# Altium integrated library ALTIUM-WE-LQS-rev18a.IntLib: 212 symbols (part 2 of 3)
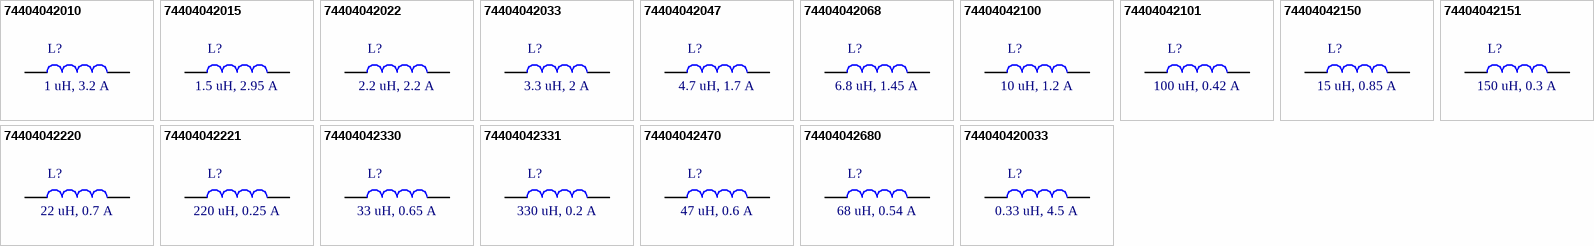
[diagram p13: symbols 74404042010 to 744040420033]

## 74404042330
designator L?, comment 33 uH, 0.65 A
SMT Semi-Shielded Power Inductor WE-LQS, size 4018, 33 uH, 0.65 A; Part Number: 74404042330; Rated Current: 0.65 A; Inductance: 33 uH; DC Resistance max.: 552 mOhm; Self Resonant Frequency: 14 MHz; Saturation Current: 0.9 A; ComponentLink1Description: Manufacturer; ComponentLink1URL: http://www.we-online.de; ComponentLink2Description: Datasheet; ComponentLink2URL: https://katalog.we-online.de/pbs/datasheet/74404042330.pdf; Published Date: November 2018; Publisher: Wurth Elektronik; Size: 4018; Operating Temperature: -40 to +125 degC; Mounting Technology: SMT; Packaging: Tape and Reel
footprint WE-LQS_4018
pins: 1, 2

## 74404042331
designator L?, comment 330 uH, 0.2 A
SMT Semi-Shielded Power Inductor WE-LQS, size 4018, 330 uH, 0.2 A; Part Number: 74404042331; Rated Current: 0.2 A; Inductance: 330 uH; DC Resistance max.: 6360 mOhm; Self Resonant Frequency: 4.2 MHz; Saturation Current: 0.3 A; ComponentLink1Description: Manufacturer; ComponentLink1URL: http://www.we-online.de; ComponentLink2Description: Datasheet; ComponentLink2URL: https://katalog.we-online.de/pbs/datasheet/74404042331.pdf; Published Date: November 2018; Publisher: Wurth Elektronik; Size: 4018; Operating Temperature: -40 to +125 degC; Mounting Technology: SMT; Packaging: Tape and Reel
footprint WE-LQS_4018
pins: 1, 2

## 74404042470
designator L?, comment 47 uH, 0.6 A
SMT Semi-Shielded Power Inductor WE-LQS, size 4018, 47 uH, 0.6 A; Part Number: 74404042470; Rated Current: 0.6 A; Inductance: 47 uH; DC Resistance max.: 744 mOhm; Self Resonant Frequency: 11 MHz; Saturation Current: 0.7 A; ComponentLink1Description: Manufacturer; ComponentLink1URL: http://www.we-online.de; ComponentLink2Description: Datasheet; ComponentLink2URL: https://katalog.we-online.de/pbs/datasheet/74404042470.pdf; Published Date: November 2018; Publisher: Wurth Elektronik; Size: 4018; Operating Temperature: -40 to +125 degC; Mounting Technology: SMT; Packaging: Tape and Reel
footprint WE-LQS_4018
pins: 1, 2

## 74404042680
designator L?, comment 68 uH, 0.54 A
SMT Semi-Shielded Power Inductor WE-LQS, size 4018, 68 uH, 0.54 A; Part Number: 74404042680; Rated Current: 0.54 A; Inductance: 68 uH; DC Resistance max.: 1008 mOhm; Self Resonant Frequency: 9 MHz; Saturation Current: 0.63 A; ComponentLink1Description: Manufacturer; ComponentLink1URL: http://www.we-online.de; ComponentLink2Description: Datasheet; ComponentLink2URL: https://katalog.we-online.de/pbs/datasheet/74404042680.pdf; Published Date: November 2018; Publisher: Wurth Elektronik; Size: 4018; Operating Temperature: -40 to +125 degC; Mounting Technology: SMT; Packaging: Tape and Reel
footprint WE-LQS_4018
pins: 1, 2

## 744040420033
designator L?, comment 0.33 uH, 4.5 A
SMT Semi-Shielded Power Inductor WE-LQS, size 4018, 0.33 uH, 4.5 A; Part Number: 744040420033; Rated Current: 4.5 A; Inductance: 0.33 uH; DC Resistance max.: 15.6 mOhm; Self Resonant Frequency: 326 MHz; Saturation Current: 7.6 A; ComponentLink1Description: Manufacturer; ComponentLink1URL: http://www.we-online.de; ComponentLink2Description: Datasheet; ComponentLink2URL: https://katalog.we-online.de/pbs/datasheet/744040420033.pdf; Published Date: November 2018; Publisher: Wurth Elektronik; Size: 4018; Operating Temperature: -40 to +125 degC; Mounting Technology: SMT; Packaging: Tape and Reel
footprint WE-LQS_4018
pins: 1, 2


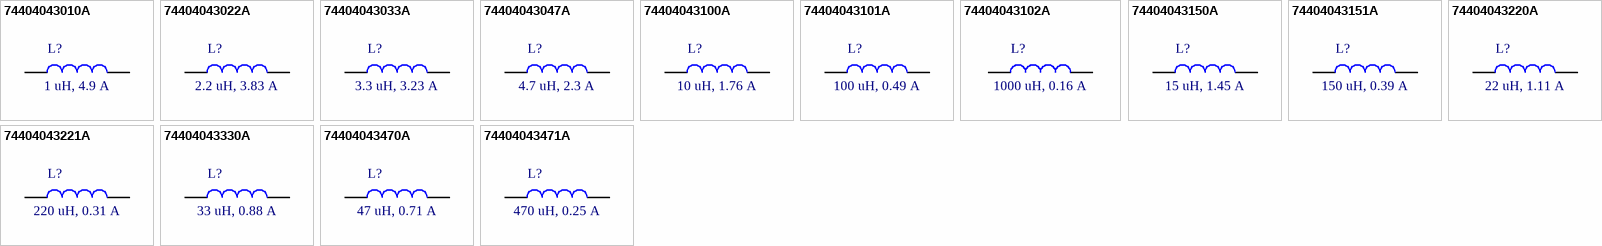
[diagram p6: symbols 74404043010A to 74404043471A]

## 74404043010A
designator L?, comment 1 uH, 4.9 A
SMT Semi-Shielded Power Inductor WE-LQS, size 4025, 1 uH, 4.9 A; Part Number: 74404043010A; Rated Current: 4.9 A; Inductance: 1 uH; DC Resistance max.: 16.8 mOhm; Self Resonant Frequency: 167 MHz; Saturation Current: 3.22 A; ComponentLink1Description: Manufacturer; ComponentLink1URL: http://www.we-online.de; ComponentLink2Description: Datasheet; ComponentLink2URL: https://katalog.we-online.de/pbs/datasheet/74404043010A.pdf; Published Date: November 2018; Publisher: Wurth Elektronik; Size: 4025; Operating Temperature: -40 to +125 degC; Mounting Technology: SMT; Packaging: Tape and Reel
footprint WE-LQS_4025
pins: 1, 2

## 74404043022A
designator L?, comment 2.2 uH, 3.83 A
SMT Semi-Shielded Power Inductor WE-LQS, size 4025, 2.2 uH, 3.83 A; Part Number: 74404043022A; Rated Current: 3.83 A; Inductance: 2.2 uH; DC Resistance max.: 27.6 mOhm; Self Resonant Frequency: 104 MHz; Saturation Current: 2.28 A; ComponentLink1Description: Manufacturer; ComponentLink1URL: http://www.we-online.de; ComponentLink2Description: Datasheet; ComponentLink2URL: https://katalog.we-online.de/pbs/datasheet/74404043022A.pdf; Published Date: November 2018; Publisher: Wurth Elektronik; Size: 4025; Operating Temperature: -40 to +125 degC; Mounting Technology: SMT; Packaging: Tape and Reel
footprint WE-LQS_4025
pins: 1, 2

## 74404043033A
designator L?, comment 3.3 uH, 3.23 A
SMT Semi-Shielded Power Inductor WE-LQS, size 4025, 3.3 uH, 3.23 A; Part Number: 74404043033A; Rated Current: 3.23 A; Inductance: 3.3 uH; DC Resistance max.: 39.6 mOhm; Self Resonant Frequency: 75 MHz; Saturation Current: 1.75 A; ComponentLink1Description: Manufacturer; ComponentLink1URL: http://www.we-online.de; ComponentLink2Description: Datasheet; ComponentLink2URL: https://katalog.we-online.de/pbs/datasheet/74404043033A.pdf; Published Date: November 2018; Publisher: Wurth Elektronik; Size: 4025; Operating Temperature: -40 to +125 degC; Mounting Technology: SMT; Packaging: Tape and Reel
footprint WE-LQS_4025
pins: 1, 2

## 74404043047A
designator L?, comment 4.7 uH, 2.3 A
SMT Semi-Shielded Power Inductor WE-LQS, size 4025, 4.7 uH, 2.3 A; Part Number: 74404043047A; Rated Current: 2.3 A; Inductance: 4.7 uH; DC Resistance max.: 55.2 mOhm; Self Resonant Frequency: 61 MHz; Saturation Current: 1.43 A; ComponentLink1Description: Manufacturer; ComponentLink1URL: http://www.we-online.de; ComponentLink2Description: Datasheet; ComponentLink2URL: https://katalog.we-online.de/pbs/datasheet/74404043047A.pdf; Published Date: November 2018; Publisher: Wurth Elektronik; Size: 4025; Operating Temperature: -40 to +125 degC; Mounting Technology: SMT; Packaging: Tape and Reel
footprint WE-LQS_4025
pins: 1, 2

## 74404043100A
designator L?, comment 10 uH, 1.76 A
SMT Semi-Shielded Power Inductor WE-LQS, size 4025, 10 uH, 1.76 A; Part Number: 74404043100A; Rated Current: 1.76 A; Inductance: 10 uH; DC Resistance max.: 106.8 mOhm; Self Resonant Frequency: 42 MHz; Saturation Current: 1.04 A; ComponentLink1Description: Manufacturer; ComponentLink1URL: http://www.we-online.de; ComponentLink2Description: Datasheet; ComponentLink2URL: https://katalog.we-online.de/pbs/datasheet/74404043100A.pdf; Published Date: November 2018; Publisher: Wurth Elektronik; Size: 4025; Operating Temperature: -40 to +125 degC; Mounting Technology: SMT; Packaging: Tape and Reel
footprint WE-LQS_4025
pins: 1, 2

## 74404043101A
designator L?, comment 100 uH, 0.49 A
SMT Semi-Shielded Power Inductor WE-LQS, size 4025, 100 uH, 0.49 A; Part Number: 74404043101A; Rated Current: 0.49 A; Inductance: 100 uH; DC Resistance max.: 1251.6 mOhm; Self Resonant Frequency: 11 MHz; Saturation Current: 0.29 A; ComponentLink1Description: Manufacturer; ComponentLink1URL: http://www.we-online.de; ComponentLink2Description: Datasheet; ComponentLink2URL: https://katalog.we-online.de/pbs/datasheet/74404043101A.pdf; Published Date: November 2018; Publisher: Wurth Elektronik; Size: 4025; Operating Temperature: -40 to +125 degC; Mounting Technology: SMT; Packaging: Tape and Reel
footprint WE-LQS_4025
pins: 1, 2

## 74404043102A
designator L?, comment 1000 uH, 0.16 A
SMT Semi-Shielded Power Inductor WE-LQS, size 4025, 1000 uH, 0.16 A; Part Number: 74404043102A; Rated Current: 0.16 A; Inductance: 1000 uH; DC Resistance max.: 12410.4 mOhm; Self Resonant Frequency: 3 MHz; Saturation Current: 0.09 A; ComponentLink1Description: Manufacturer; ComponentLink1URL: http://www.we-online.de; ComponentLink2Description: Datasheet; ComponentLink2URL: https://katalog.we-online.de/pbs/datasheet/74404043102A.pdf; Published Date: November 2018; Publisher: Wurth Elektronik; Size: 4025; Operating Temperature: -40 to +125 degC; Mounting Technology: SMT; Packaging: Tape and Reel
footprint WE-LQS_4025
pins: 1, 2

## 74404043150A
designator L?, comment 15 uH, 1.45 A
SMT Semi-Shielded Power Inductor WE-LQS, size 4025, 15 uH, 1.45 A; Part Number: 74404043150A; Rated Current: 1.45 A; Inductance: 15 uH; DC Resistance max.: 158.4 mOhm; Self Resonant Frequency: 33 MHz; Saturation Current: 0.84 A; ComponentLink1Description: Manufacturer; ComponentLink1URL: http://www.we-online.de; ComponentLink2Description: Datasheet; ComponentLink2URL: https://katalog.we-online.de/pbs/datasheet/74404043150A.pdf; Published Date: November 2018; Publisher: Wurth Elektronik; Size: 4025; Operating Temperature: -40 to +125 degC; Mounting Technology: SMT; Packaging: Tape and Reel
footprint WE-LQS_4025
pins: 1, 2

## 74404043151A
designator L?, comment 150 uH, 0.39 A
SMT Semi-Shielded Power Inductor WE-LQS, size 4025, 150 uH, 0.39 A; Part Number: 74404043151A; Rated Current: 0.39 A; Inductance: 150 uH; DC Resistance max.: 1960.8 mOhm; Self Resonant Frequency: 9 MHz; Saturation Current: 0.27 A; ComponentLink1Description: Manufacturer; ComponentLink1URL: http://www.we-online.de; ComponentLink2Description: Datasheet; ComponentLink2URL: https://katalog.we-online.de/pbs/datasheet/74404043151A.pdf; Published Date: November 2018; Publisher: Wurth Elektronik; Size: 4025; Operating Temperature: -40 to +125 degC; Mounting Technology: SMT; Packaging: Tape and Reel
footprint WE-LQS_4025
pins: 1, 2

## 74404043220A
designator L?, comment 22 uH, 1.11 A
SMT Semi-Shielded Power Inductor WE-LQS, size 4025, 22 uH, 1.11 A; Part Number: 74404043220A; Rated Current: 1.11 A; Inductance: 22 uH; DC Resistance max.: 240 mOhm; Self Resonant Frequency: 26 MHz; Saturation Current: 0.7 A; ComponentLink1Description: Manufacturer; ComponentLink1URL: http://www.we-online.de; ComponentLink2Description: Datasheet; ComponentLink2URL: https://katalog.we-online.de/pbs/datasheet/74404043220A.pdf; Published Date: November 2018; Publisher: Wurth Elektronik; Size: 4025; Operating Temperature: -40 to +125 degC; Mounting Technology: SMT; Packaging: Tape and Reel
footprint WE-LQS_4025
pins: 1, 2

## 74404043221A
designator L?, comment 220 uH, 0.31 A
SMT Semi-Shielded Power Inductor WE-LQS, size 4025, 220 uH, 0.31 A; Part Number: 74404043221A; Rated Current: 0.31 A; Inductance: 220 uH; DC Resistance max.: 2916 mOhm; Self Resonant Frequency: 7 MHz; Saturation Current: 0.21 A; ComponentLink1Description: Manufacturer; ComponentLink1URL: http://www.we-online.de; ComponentLink2Description: Datasheet; ComponentLink2URL: https://katalog.we-online.de/pbs/datasheet/74404043221A.pdf; Published Date: November 2018; Publisher: Wurth Elektronik; Size: 4025; Operating Temperature: -40 to +125 degC; Mounting Technology: SMT; Packaging: Tape and Reel
footprint WE-LQS_4025
pins: 1, 2

## 74404043330A
designator L?, comment 33 uH, 0.88 A
SMT Semi-Shielded Power Inductor WE-LQS, size 4025, 33 uH, 0.88 A; Part Number: 74404043330A; Rated Current: 0.88 A; Inductance: 33 uH; DC Resistance max.: 379.2 mOhm; Self Resonant Frequency: 21 MHz; Saturation Current: 0.53 A; ComponentLink1Description: Manufacturer; ComponentLink1URL: http://www.we-online.de; ComponentLink2Description: Datasheet; ComponentLink2URL: https://katalog.we-online.de/pbs/datasheet/74404043330A.pdf; Published Date: November 2018; Publisher: Wurth Elektronik; Size: 4025; Operating Temperature: -40 to +125 degC; Mounting Technology: SMT; Packaging: Tape and Reel
footprint WE-LQS_4025
pins: 1, 2

## 74404043470A
designator L?, comment 47 uH, 0.71 A
SMT Semi-Shielded Power Inductor WE-LQS, size 4025, 47 uH, 0.71 A; Part Number: 74404043470A; Rated Current: 0.71 A; Inductance: 47 uH; DC Resistance max.: 590.4 mOhm; Self Resonant Frequency: 15 MHz; Saturation Current: 0.45 A; ComponentLink1Description: Manufacturer; ComponentLink1URL: http://www.we-online.de; ComponentLink2Description: Datasheet; ComponentLink2URL: https://katalog.we-online.de/pbs/datasheet/74404043470A.pdf; Published Date: November 2018; Publisher: Wurth Elektronik; Size: 4025; Operating Temperature: -40 to +125 degC; Mounting Technology: SMT; Packaging: Tape and Reel
footprint WE-LQS_4025
pins: 1, 2

## 74404043471A
designator L?, comment 470 uH, 0.25 A
SMT Semi-Shielded Power Inductor WE-LQS, size 4025, 470 uH, 0.25 A; Part Number: 74404043471A; Rated Current: 0.25 A; Inductance: 470 uH; DC Resistance max.: 4980 mOhm; Self Resonant Frequency: 4.7 MHz; Saturation Current: 0.14 A; ComponentLink1Description: Manufacturer; ComponentLink1URL: http://www.we-online.de; ComponentLink2Description: Datasheet; ComponentLink2URL: https://katalog.we-online.de/pbs/datasheet/74404043471A.pdf; Published Date: November 2018; Publisher: Wurth Elektronik; Size: 4025; Operating Temperature: -40 to +125 degC; Mounting Technology: SMT; Packaging: Tape and Reel
footprint WE-LQS_4025
pins: 1, 2


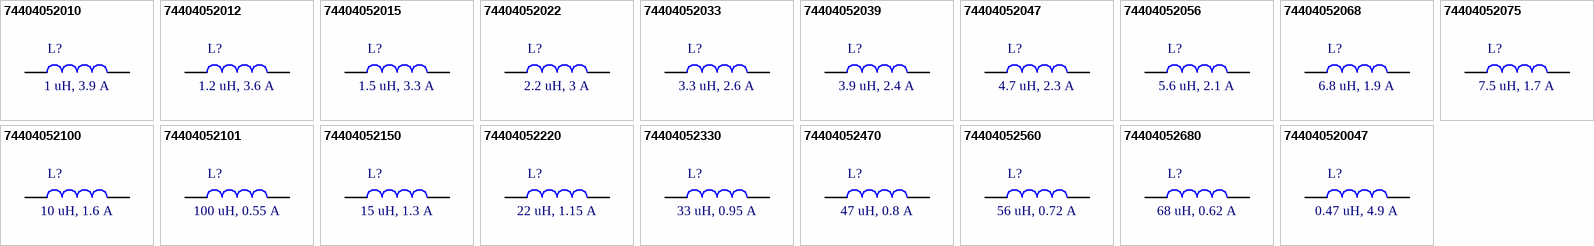
[diagram p7: symbols 74404052010 to 744040520047]

## 74404052010
designator L?, comment 1 uH, 3.9 A
SMT Semi-Shielded Power Inductor WE-LQS, size 5020, 1 uH, 3.9 A; Part Number: 74404052010; Rated Current: 3.9 A; Inductance: 1 uH; DC Resistance max.: 23.76 mOhm; Self Resonant Frequency: 145 MHz; Saturation Current: 5.5 A; ComponentLink1Description: Manufacturer; ComponentLink1URL: http://www.we-online.de; ComponentLink2Description: Datasheet; ComponentLink2URL: https://katalog.we-online.de/pbs/datasheet/74404052010.pdf; Published Date: November 2018; Publisher: Wurth Elektronik; Size: 5020; Operating Temperature: -40 to +125 degC; Mounting Technology: SMT; Packaging: Tape and Reel
footprint WE-LQS_5020
pins: 1, 2

## 74404052012
designator L?, comment 1.2 uH, 3.6 A
SMT Semi-Shielded Power Inductor WE-LQS, size 5020, 1.2 uH, 3.6 A; Part Number: 74404052012; Rated Current: 3.6 A; Inductance: 1.2 uH; DC Resistance max.: 28.08 mOhm; Self Resonant Frequency: 150 MHz; Saturation Current: 5.2 A; ComponentLink1Description: Manufacturer; ComponentLink1URL: http://www.we-online.de; ComponentLink2Description: Datasheet; ComponentLink2URL: https://katalog.we-online.de/pbs/datasheet/74404052012.pdf; Published Date: November 2018; Publisher: Wurth Elektronik; Size: 5020; Operating Temperature: -40 to +125 degC; Mounting Technology: SMT; Packaging: Tape and Reel
footprint WE-LQS_5020
pins: 1, 2

## 74404052015
designator L?, comment 1.5 uH, 3.3 A
SMT Semi-Shielded Power Inductor WE-LQS, size 5020, 1.5 uH, 3.3 A; Part Number: 74404052015; Rated Current: 3.3 A; Inductance: 1.5 uH; DC Resistance max.: 30.84 mOhm; Self Resonant Frequency: 92 MHz; Saturation Current: 4.9 A; ComponentLink1Description: Manufacturer; ComponentLink1URL: http://www.we-online.de; ComponentLink2Description: Datasheet; ComponentLink2URL: https://katalog.we-online.de/pbs/datasheet/74404052015.pdf; Published Date: November 2018; Publisher: Wurth Elektronik; Size: 5020; Operating Temperature: -40 to +125 degC; Mounting Technology: SMT; Packaging: Tape and Reel
footprint WE-LQS_5020
pins: 1, 2

## 74404052022
designator L?, comment 2.2 uH, 3 A
SMT Semi-Shielded Power Inductor WE-LQS, size 5020, 2.2 uH, 3 A; Part Number: 74404052022; Rated Current: 3 A; Inductance: 2.2 uH; DC Resistance max.: 37.92 mOhm; Self Resonant Frequency: 88 MHz; Saturation Current: 3.6 A; ComponentLink1Description: Manufacturer; ComponentLink1URL: http://www.we-online.de; ComponentLink2Description: Datasheet; ComponentLink2URL: https://katalog.we-online.de/pbs/datasheet/74404052022.pdf; Published Date: November 2018; Publisher: Wurth Elektronik; Size: 5020; Operating Temperature: -40 to +125 degC; Mounting Technology: SMT; Packaging: Tape and Reel
footprint WE-LQS_5020
pins: 1, 2

## 74404052033
designator L?, comment 3.3 uH, 2.6 A
SMT Semi-Shielded Power Inductor WE-LQS, size 5020, 3.3 uH, 2.6 A; Part Number: 74404052033; Rated Current: 2.6 A; Inductance: 3.3 uH; DC Resistance max.: 50.64 mOhm; Self Resonant Frequency: 70 MHz; Saturation Current: 3 A; ComponentLink1Description: Manufacturer; ComponentLink1URL: http://www.we-online.de; ComponentLink2Description: Datasheet; ComponentLink2URL: https://katalog.we-online.de/pbs/datasheet/74404052033.pdf; Published Date: November 2018; Publisher: Wurth Elektronik; Size: 5020; Operating Temperature: -40 to +125 degC; Mounting Technology: SMT; Packaging: Tape and Reel
footprint WE-LQS_5020
pins: 1, 2

## 74404052039
designator L?, comment 3.9 uH, 2.4 A
SMT Semi-Shielded Power Inductor WE-LQS, size 5020, 3.9 uH, 2.4 A; Part Number: 74404052039; Rated Current: 2.4 A; Inductance: 3.9 uH; DC Resistance max.: 60.6 mOhm; Self Resonant Frequency: 62 MHz; Saturation Current: 2.8 A; ComponentLink1Description: Manufacturer; ComponentLink1URL: http://www.we-online.de; ComponentLink2Description: Datasheet; ComponentLink2URL: https://katalog.we-online.de/pbs/datasheet/74404052039.pdf; Published Date: November 2018; Publisher: Wurth Elektronik; Size: 5020; Operating Temperature: -40 to +125 degC; Mounting Technology: SMT; Packaging: Tape and Reel
footprint WE-LQS_5020
pins: 1, 2

## 74404052047
designator L?, comment 4.7 uH, 2.3 A
SMT Semi-Shielded Power Inductor WE-LQS, size 5020, 4.7 uH, 2.3 A; Part Number: 74404052047; Rated Current: 2.3 A; Inductance: 4.7 uH; DC Resistance max.: 67.08 mOhm; Self Resonant Frequency: 57 MHz; Saturation Current: 2.7 A; ComponentLink1Description: Manufacturer; ComponentLink1URL: http://www.we-online.de; ComponentLink2Description: Datasheet; ComponentLink2URL: https://katalog.we-online.de/pbs/datasheet/74404052047.pdf; Published Date: November 2018; Publisher: Wurth Elektronik; Size: 5020; Operating Temperature: -40 to +125 degC; Mounting Technology: SMT; Packaging: Tape and Reel
footprint WE-LQS_5020
pins: 1, 2

## 74404052056
designator L?, comment 5.6 uH, 2.1 A
SMT Semi-Shielded Power Inductor WE-LQS, size 5020, 5.6 uH, 2.1 A; Part Number: 74404052056; Rated Current: 2.1 A; Inductance: 5.6 uH; DC Resistance max.: 81 mOhm; Self Resonant Frequency: 50 MHz; Saturation Current: 2.55 A; ComponentLink1Description: Manufacturer; ComponentLink1URL: http://www.we-online.de; ComponentLink2Description: Datasheet; ComponentLink2URL: https://katalog.we-online.de/pbs/datasheet/74404052056.pdf; Published Date: November 2018; Publisher: Wurth Elektronik; Size: 5020; Operating Temperature: -40 to +125 degC; Mounting Technology: SMT; Packaging: Tape and Reel
footprint WE-LQS_5020
pins: 1, 2

## 74404052068
designator L?, comment 6.8 uH, 1.9 A
SMT Semi-Shielded Power Inductor WE-LQS, size 5020, 6.8 uH, 1.9 A; Part Number: 74404052068; Rated Current: 1.9 A; Inductance: 6.8 uH; DC Resistance max.: 99.24 mOhm; Self Resonant Frequency: 46 MHz; Saturation Current: 2.4 A; ComponentLink1Description: Manufacturer; ComponentLink1URL: http://www.we-online.de; ComponentLink2Description: Datasheet; ComponentLink2URL: https://katalog.we-online.de/pbs/datasheet/74404052068.pdf; Published Date: November 2018; Publisher: Wurth Elektronik; Size: 5020; Operating Temperature: -40 to +125 degC; Mounting Technology: SMT; Packaging: Tape and Reel
footprint WE-LQS_5020
pins: 1, 2

## 74404052075
designator L?, comment 7.5 uH, 1.7 A
SMT Semi-Shielded Power Inductor WE-LQS, size 5020, 7.5 uH, 1.7 A; Part Number: 74404052075; Rated Current: 1.7 A; Inductance: 7.5 uH; DC Resistance max.: 116.16 mOhm; Self Resonant Frequency: 40 MHz; Saturation Current: 2.1 A; ComponentLink1Description: Manufacturer; ComponentLink1URL: http://www.we-online.de; ComponentLink2Description: Datasheet; ComponentLink2URL: https://katalog.we-online.de/pbs/datasheet/74404052075.pdf; Published Date: November 2018; Publisher: Wurth Elektronik; Size: 5020; Operating Temperature: -40 to +125 degC; Mounting Technology: SMT; Packaging: Tape and Reel
footprint WE-LQS_5020
pins: 1, 2

## 74404052100
designator L?, comment 10 uH, 1.6 A
SMT Semi-Shielded Power Inductor WE-LQS, size 5020, 10 uH, 1.6 A; Part Number: 74404052100; Rated Current: 1.6 A; Inductance: 10 uH; DC Resistance max.: 130.8 mOhm; Self Resonant Frequency: 37 MHz; Saturation Current: 1.95 A; ComponentLink1Description: Manufacturer; ComponentLink1URL: http://www.we-online.de; ComponentLink2Description: Datasheet; ComponentLink2URL: https://katalog.we-online.de/pbs/datasheet/74404052100.pdf; Published Date: November 2018; Publisher: Wurth Elektronik; Size: 5020; Operating Temperature: -40 to +125 degC; Mounting Technology: SMT; Packaging: Tape and Reel
footprint WE-LQS_5020
pins: 1, 2

## 74404052101
designator L?, comment 100 uH, 0.55 A
SMT Semi-Shielded Power Inductor WE-LQS, size 5020, 100 uH, 0.55 A; Part Number: 74404052101; Rated Current: 0.55 A; Inductance: 100 uH; DC Resistance max.: 1308 mOhm; Self Resonant Frequency: 8.7 MHz; Saturation Current: 0.6 A; ComponentLink1Description: Manufacturer; ComponentLink1URL: http://www.we-online.de; ComponentLink2Description: Datasheet; ComponentLink2URL: https://katalog.we-online.de/pbs/datasheet/74404052101.pdf; Published Date: November 2018; Publisher: Wurth Elektronik; Size: 5020; Operating Temperature: -40 to +125 degC; Mounting Technology: SMT; Packaging: Tape and Reel
footprint WE-LQS_5020
pins: 1, 2

## 74404052150
designator L?, comment 15 uH, 1.3 A
SMT Semi-Shielded Power Inductor WE-LQS, size 5020, 15 uH, 1.3 A; Part Number: 74404052150; Rated Current: 1.3 A; Inductance: 15 uH; DC Resistance max.: 194.4 mOhm; Self Resonant Frequency: 31 MHz; Saturation Current: 1.5 A; ComponentLink1Description: Manufacturer; ComponentLink1URL: http://www.we-online.de; ComponentLink2Description: Datasheet; ComponentLink2URL: https://katalog.we-online.de/pbs/datasheet/74404052150.pdf; Published Date: November 2018; Publisher: Wurth Elektronik; Size: 5020; Operating Temperature: -40 to +125 degC; Mounting Technology: SMT; Packaging: Tape and Reel
footprint WE-LQS_5020
pins: 1, 2

## 74404052220
designator L?, comment 22 uH, 1.15 A
SMT Semi-Shielded Power Inductor WE-LQS, size 5020, 22 uH, 1.15 A; Part Number: 74404052220; Rated Current: 1.15 A; Inductance: 22 uH; DC Resistance max.: 270 mOhm; Self Resonant Frequency: 22 MHz; Saturation Current: 1.35 A; ComponentLink1Description: Manufacturer; ComponentLink1URL: http://www.we-online.de; ComponentLink2Description: Datasheet; ComponentLink2URL: https://katalog.we-online.de/pbs/datasheet/74404052220.pdf; Published Date: November 2018; Publisher: Wurth Elektronik; Size: 5020; Operating Temperature: -40 to +125 degC; Mounting Technology: SMT; Packaging: Tape and Reel
footprint WE-LQS_5020
pins: 1, 2

## 74404052330
designator L?, comment 33 uH, 0.95 A
SMT Semi-Shielded Power Inductor WE-LQS, size 5020, 33 uH, 0.95 A; Part Number: 74404052330; Rated Current: 0.95 A; Inductance: 33 uH; DC Resistance max.: 464.4 mOhm; Self Resonant Frequency: 15 MHz; Saturation Current: 1.1 A; ComponentLink1Description: Manufacturer; ComponentLink1URL: http://www.we-online.de; ComponentLink2Description: Datasheet; ComponentLink2URL: https://katalog.we-online.de/pbs/datasheet/74404052330.pdf; Published Date: November 2018; Publisher: Wurth Elektronik; Size: 5020; Operating Temperature: -40 to +125 degC; Mounting Technology: SMT; Packaging: Tape and Reel
footprint WE-LQS_5020
pins: 1, 2

## 74404052470
designator L?, comment 47 uH, 0.8 A
SMT Semi-Shielded Power Inductor WE-LQS, size 5020, 47 uH, 0.8 A; Part Number: 74404052470; Rated Current: 0.8 A; Inductance: 47 uH; DC Resistance max.: 625.2 mOhm; Self Resonant Frequency: 11 MHz; Saturation Current: 0.95 A; ComponentLink1Description: Manufacturer; ComponentLink1URL: http://www.we-online.de; ComponentLink2Description: Datasheet; ComponentLink2URL: https://katalog.we-online.de/pbs/datasheet/74404052470.pdf; Published Date: November 2018; Publisher: Wurth Elektronik; Size: 5020; Operating Temperature: -40 to +125 degC; Mounting Technology: SMT; Packaging: Tape and Reel
footprint WE-LQS_5020
pins: 1, 2

## 74404052560
designator L?, comment 56 uH, 0.72 A
SMT Semi-Shielded Power Inductor WE-LQS, size 5020, 56 uH, 0.72 A; Part Number: 74404052560; Rated Current: 0.72 A; Inductance: 56 uH; DC Resistance max.: 752.4 mOhm; Self Resonant Frequency: 10 MHz; Saturation Current: 0.85 A; ComponentLink1Description: Manufacturer; ComponentLink1URL: http://www.we-online.de; ComponentLink2Description: Datasheet; ComponentLink2URL: https://katalog.we-online.de/pbs/datasheet/74404052560.pdf; Published Date: November 2018; Publisher: Wurth Elektronik; Size: 5020; Operating Temperature: -40 to +125 degC; Mounting Technology: SMT; Packaging: Tape and Reel
footprint WE-LQS_5020
pins: 1, 2

## 74404052680
designator L?, comment 68 uH, 0.62 A
SMT Semi-Shielded Power Inductor WE-LQS, size 5020, 68 uH, 0.62 A; Part Number: 74404052680; Rated Current: 0.62 A; Inductance: 68 uH; DC Resistance max.: 922.8 mOhm; Self Resonant Frequency: 9.2 MHz; Saturation Current: 0.8 A; ComponentLink1Description: Manufacturer; ComponentLink1URL: http://www.we-online.de; ComponentLink2Description: Datasheet; ComponentLink2URL: https://katalog.we-online.de/pbs/datasheet/74404052680.pdf; Published Date: November 2018; Publisher: Wurth Elektronik; Size: 5020; Operating Temperature: -40 to +125 degC; Mounting Technology: SMT; Packaging: Tape and Reel
footprint WE-LQS_5020
pins: 1, 2

## 744040520047
designator L?, comment 0.47 uH, 4.9 A
SMT Semi-Shielded Power Inductor WE-LQS, size 5020, 0.47 uH, 4.9 A; Part Number: 744040520047; Rated Current: 4.9 A; Inductance: 0.47 uH; DC Resistance max.: 16.68 mOhm; Self Resonant Frequency: 252 MHz; Saturation Current: 7.97 A; ComponentLink1Description: Manufacturer; ComponentLink1URL: http://www.we-online.de; ComponentLink2Description: Datasheet; ComponentLink2URL: https://katalog.we-online.de/pbs/datasheet/744040520047.pdf; Published Date: November 2018; Publisher: Wurth Elektronik; Size: 5020; Operating Temperature: -40 to +125 degC; Mounting Technology: SMT; Packaging: Tape and Reel
footprint WE-LQS_5020
pins: 1, 2


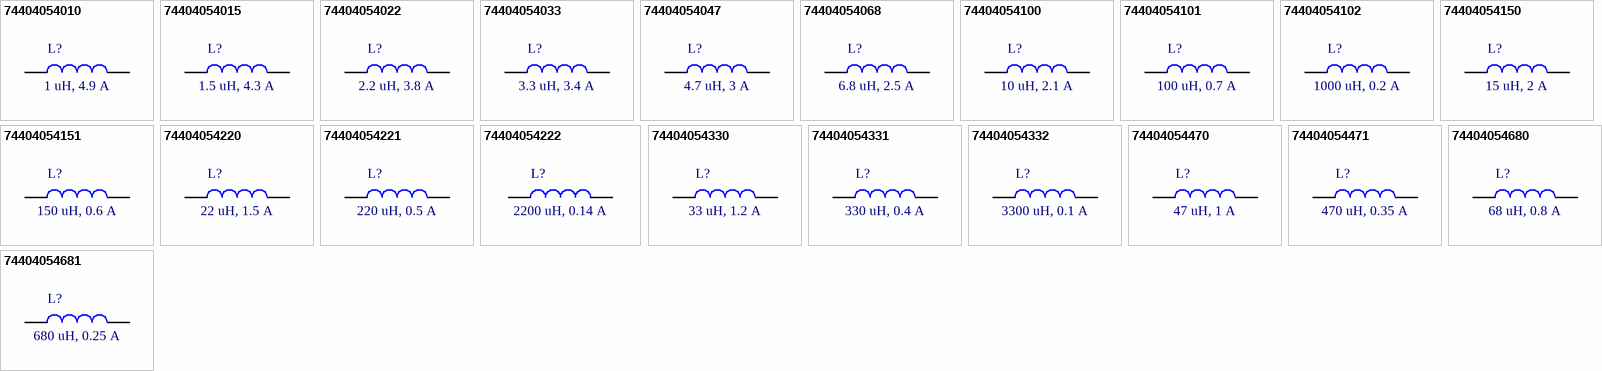
[diagram p8: symbols 74404054010 to 74404054681]

## 74404054010
designator L?, comment 1 uH, 4.9 A
SMT Semi-Shielded Power Inductor WE-LQS, size 5040, 1 uH, 4.9 A; Part Number: 74404054010; Rated Current: 4.9 A; Inductance: 1 uH; DC Resistance max.: 14.4 mOhm; Self Resonant Frequency: 187 MHz; Saturation Current: 8 A; ComponentLink1Description: Manufacturer; ComponentLink1URL: http://www.we-online.de; ComponentLink2Description: Datasheet; ComponentLink2URL: https://katalog.we-online.de/pbs/datasheet/74404054010.pdf; Published Date: November 2018; Publisher: Wurth Elektronik; Size: 5040; Operating Temperature: -40 to +125 degC; Mounting Technology: SMT; Packaging: Tape and Reel
footprint WE-LQS_5040
pins: 1, 2

## 74404054015
designator L?, comment 1.5 uH, 4.3 A
SMT Semi-Shielded Power Inductor WE-LQS, size 5040, 1.5 uH, 4.3 A; Part Number: 74404054015; Rated Current: 4.3 A; Inductance: 1.5 uH; DC Resistance max.: 18 mOhm; Self Resonant Frequency: 137 MHz; Saturation Current: 6.9 A; ComponentLink1Description: Manufacturer; ComponentLink1URL: http://www.we-online.de; ComponentLink2Description: Datasheet; ComponentLink2URL: https://katalog.we-online.de/pbs/datasheet/74404054015.pdf; Published Date: November 2018; Publisher: Wurth Elektronik; Size: 5040; Operating Temperature: -40 to +125 degC; Mounting Technology: SMT; Packaging: Tape and Reel
footprint WE-LQS_5040
pins: 1, 2

## 74404054022
designator L?, comment 2.2 uH, 3.8 A
SMT Semi-Shielded Power Inductor WE-LQS, size 5040, 2.2 uH, 3.8 A; Part Number: 74404054022; Rated Current: 3.8 A; Inductance: 2.2 uH; DC Resistance max.: 22.8 mOhm; Self Resonant Frequency: 77 MHz; Saturation Current: 5.3 A; ComponentLink1Description: Manufacturer; ComponentLink1URL: http://www.we-online.de; ComponentLink2Description: Datasheet; ComponentLink2URL: https://katalog.we-online.de/pbs/datasheet/74404054022.pdf; Published Date: November 2018; Publisher: Wurth Elektronik; Size: 5040; Operating Temperature: -40 to +125 degC; Mounting Technology: SMT; Packaging: Tape and Reel
footprint WE-LQS_5040
pins: 1, 2

## 74404054033
designator L?, comment 3.3 uH, 3.4 A
SMT Semi-Shielded Power Inductor WE-LQS, size 5040, 3.3 uH, 3.4 A; Part Number: 74404054033; Rated Current: 3.4 A; Inductance: 3.3 uH; DC Resistance max.: 28.8 mOhm; Self Resonant Frequency: 48 MHz; Saturation Current: 4.3 A; ComponentLink1Description: Manufacturer; ComponentLink1URL: http://www.we-online.de; ComponentLink2Description: Datasheet; ComponentLink2URL: https://katalog.we-online.de/pbs/datasheet/74404054033.pdf; Published Date: November 2018; Publisher: Wurth Elektronik; Size: 5040; Operating Temperature: -40 to +125 degC; Mounting Technology: SMT; Packaging: Tape and Reel
footprint WE-LQS_5040
pins: 1, 2

## 74404054047
designator L?, comment 4.7 uH, 3 A
SMT Semi-Shielded Power Inductor WE-LQS, size 5040, 4.7 uH, 3 A; Part Number: 74404054047; Rated Current: 3 A; Inductance: 4.7 uH; DC Resistance max.: 36 mOhm; Self Resonant Frequency: 43 MHz; Saturation Current: 3.8 A; ComponentLink1Description: Manufacturer; ComponentLink1URL: http://www.we-online.de; ComponentLink2Description: Datasheet; ComponentLink2URL: https://katalog.we-online.de/pbs/datasheet/74404054047.pdf; Published Date: November 2018; Publisher: Wurth Elektronik; Size: 5040; Operating Temperature: -40 to +125 degC; Mounting Technology: SMT; Packaging: Tape and Reel
footprint WE-LQS_5040
pins: 1, 2

## 74404054068
designator L?, comment 6.8 uH, 2.5 A
SMT Semi-Shielded Power Inductor WE-LQS, size 5040, 6.8 uH, 2.5 A; Part Number: 74404054068; Rated Current: 2.5 A; Inductance: 6.8 uH; DC Resistance max.: 51.6 mOhm; Self Resonant Frequency: 35 MHz; Saturation Current: 3.2 A; ComponentLink1Description: Manufacturer; ComponentLink1URL: http://www.we-online.de; ComponentLink2Description: Datasheet; ComponentLink2URL: https://katalog.we-online.de/pbs/datasheet/74404054068.pdf; Published Date: November 2018; Publisher: Wurth Elektronik; Size: 5040; Operating Temperature: -40 to +125 degC; Mounting Technology: SMT; Packaging: Tape and Reel
footprint WE-LQS_5040
pins: 1, 2

## 74404054100
designator L?, comment 10 uH, 2.1 A
SMT Semi-Shielded Power Inductor WE-LQS, size 5040, 10 uH, 2.1 A; Part Number: 74404054100; Rated Current: 2.1 A; Inductance: 10 uH; DC Resistance max.: 76.8 mOhm; Self Resonant Frequency: 26 MHz; Saturation Current: 2.5 A; ComponentLink1Description: Manufacturer; ComponentLink1URL: http://www.we-online.de; ComponentLink2Description: Datasheet; ComponentLink2URL: https://katalog.we-online.de/pbs/datasheet/74404054100.pdf; Published Date: November 2018; Publisher: Wurth Elektronik; Size: 5040; Operating Temperature: -40 to +125 degC; Mounting Technology: SMT; Packaging: Tape and Reel
footprint WE-LQS_5040
pins: 1, 2

## 74404054101
designator L?, comment 100 uH, 0.7 A
SMT Semi-Shielded Power Inductor WE-LQS, size 5040, 100 uH, 0.7 A; Part Number: 74404054101; Rated Current: 0.7 A; Inductance: 100 uH; DC Resistance max.: 672 mOhm; Self Resonant Frequency: 7.2 MHz; Saturation Current: 0.82 A; ComponentLink1Description: Manufacturer; ComponentLink1URL: http://www.we-online.de; ComponentLink2Description: Datasheet; ComponentLink2URL: https://katalog.we-online.de/pbs/datasheet/74404054101.pdf; Published Date: November 2018; Publisher: Wurth Elektronik; Size: 5040; Operating Temperature: -40 to +125 degC; Mounting Technology: SMT; Packaging: Tape and Reel
footprint WE-LQS_5040
pins: 1, 2

## 74404054102
designator L?, comment 1000 uH, 0.2 A
SMT Semi-Shielded Power Inductor WE-LQS, size 5040, 1000 uH, 0.2 A; Part Number: 74404054102; Rated Current: 0.2 A; Inductance: 1000 uH; DC Resistance max.: 7200 mOhm; Self Resonant Frequency: 1.9 MHz; Saturation Current: 0.24 A; ComponentLink1Description: Manufacturer; ComponentLink1URL: http://www.we-online.de; ComponentLink2Description: Datasheet; ComponentLink2URL: https://katalog.we-online.de/pbs/datasheet/74404054102.pdf; Published Date: November 2018; Publisher: Wurth Elektronik; Size: 5040; Operating Temperature: -40 to +125 degC; Mounting Technology: SMT; Packaging: Tape and Reel
footprint WE-LQS_5040
pins: 1, 2

## 74404054150
designator L?, comment 15 uH, 2 A
SMT Semi-Shielded Power Inductor WE-LQS, size 5040, 15 uH, 2 A; Part Number: 74404054150; Rated Current: 2 A; Inductance: 15 uH; DC Resistance max.: 103.2 mOhm; Self Resonant Frequency: 22 MHz; Saturation Current: 2.2 A; ComponentLink1Description: Manufacturer; ComponentLink1URL: http://www.we-online.de; ComponentLink2Description: Datasheet; ComponentLink2URL: https://katalog.we-online.de/pbs/datasheet/74404054150.pdf; Published Date: November 2018; Publisher: Wurth Elektronik; Size: 5040; Operating Temperature: -40 to +125 degC; Mounting Technology: SMT; Packaging: Tape and Reel
footprint WE-LQS_5040
pins: 1, 2

## 74404054151
designator L?, comment 150 uH, 0.6 A
SMT Semi-Shielded Power Inductor WE-LQS, size 5040, 150 uH, 0.6 A; Part Number: 74404054151; Rated Current: 0.6 A; Inductance: 150 uH; DC Resistance max.: 972 mOhm; Self Resonant Frequency: 6.3 MHz; Saturation Current: 0.72 A; ComponentLink1Description: Manufacturer; ComponentLink1URL: http://www.we-online.de; ComponentLink2Description: Datasheet; ComponentLink2URL: https://katalog.we-online.de/pbs/datasheet/74404054151.pdf; Published Date: November 2018; Publisher: Wurth Elektronik; Size: 5040; Operating Temperature: -40 to +125 degC; Mounting Technology: SMT; Packaging: Tape and Reel
footprint WE-LQS_5040
pins: 1, 2

## 74404054220
designator L?, comment 22 uH, 1.5 A
SMT Semi-Shielded Power Inductor WE-LQS, size 5040, 22 uH, 1.5 A; Part Number: 74404054220; Rated Current: 1.5 A; Inductance: 22 uH; DC Resistance max.: 154.8 mOhm; Self Resonant Frequency: 17 MHz; Saturation Current: 1.7 A; ComponentLink1Description: Manufacturer; ComponentLink1URL: http://www.we-online.de; ComponentLink2Description: Datasheet; ComponentLink2URL: https://katalog.we-online.de/pbs/datasheet/74404054220.pdf; Published Date: November 2018; Publisher: Wurth Elektronik; Size: 5040; Operating Temperature: -40 to +125 degC; Mounting Technology: SMT; Packaging: Tape and Reel
footprint WE-LQS_5040
pins: 1, 2

## 74404054221
designator L?, comment 220 uH, 0.5 A
SMT Semi-Shielded Power Inductor WE-LQS, size 5040, 220 uH, 0.5 A; Part Number: 74404054221; Rated Current: 0.5 A; Inductance: 220 uH; DC Resistance max.: 1680 mOhm; Self Resonant Frequency: 4.5 MHz; Saturation Current: 0.55 A; ComponentLink1Description: Manufacturer; ComponentLink1URL: http://www.we-online.de; ComponentLink2Description: Datasheet; ComponentLink2URL: https://katalog.we-online.de/pbs/datasheet/74404054221.pdf; Published Date: November 2018; Publisher: Wurth Elektronik; Size: 5040; Operating Temperature: -40 to +125 degC; Mounting Technology: SMT; Packaging: Tape and Reel
footprint WE-LQS_5040
pins: 1, 2

## 74404054222
designator L?, comment 2200 uH, 0.14 A
SMT Semi-Shielded Power Inductor WE-LQS, size 5040, 2200 uH, 0.14 A; Part Number: 74404054222; Rated Current: 0.14 A; Inductance: 2200 uH; DC Resistance max.: 15480 mOhm; Self Resonant Frequency: 1.3 MHz; Saturation Current: 0.18 A; ComponentLink1Description: Manufacturer; ComponentLink1URL: http://www.we-online.de; ComponentLink2Description: Datasheet; ComponentLink2URL: https://katalog.we-online.de/pbs/datasheet/74404054222.pdf; Published Date: November 2018; Publisher: Wurth Elektronik; Size: 5040; Operating Temperature: -40 to +125 degC; Mounting Technology: SMT; Packaging: Tape and Reel
footprint WE-LQS_5040
pins: 1, 2

## 74404054330
designator L?, comment 33 uH, 1.2 A
SMT Semi-Shielded Power Inductor WE-LQS, size 5040, 33 uH, 1.2 A; Part Number: 74404054330; Rated Current: 1.2 A; Inductance: 33 uH; DC Resistance max.: 225.6 mOhm; Self Resonant Frequency: 13 MHz; Saturation Current: 1.4 A; ComponentLink1Description: Manufacturer; ComponentLink1URL: http://www.we-online.de; ComponentLink2Description: Datasheet; ComponentLink2URL: https://katalog.we-online.de/pbs/datasheet/74404054330.pdf; Published Date: November 2018; Publisher: Wurth Elektronik; Size: 5040; Operating Temperature: -40 to +125 degC; Mounting Technology: SMT; Packaging: Tape and Reel
footprint WE-LQS_5040
pins: 1, 2

## 74404054331
designator L?, comment 330 uH, 0.4 A
SMT Semi-Shielded Power Inductor WE-LQS, size 5040, 330 uH, 0.4 A; Part Number: 74404054331; Rated Current: 0.4 A; Inductance: 330 uH; DC Resistance max.: 2520 mOhm; Self Resonant Frequency: 3 MHz; Saturation Current: 0.47 A; ComponentLink1Description: Manufacturer; ComponentLink1URL: http://www.we-online.de; ComponentLink2Description: Datasheet; ComponentLink2URL: https://katalog.we-online.de/pbs/datasheet/74404054331.pdf; Published Date: November 2018; Publisher: Wurth Elektronik; Size: 5040; Operating Temperature: -40 to +125 degC; Mounting Technology: SMT; Packaging: Tape and Reel
footprint WE-LQS_5040
pins: 1, 2

## 74404054332
designator L?, comment 3300 uH, 0.1 A
SMT Semi-Shielded Power Inductor WE-LQS, size 5040, 3300 uH, 0.1 A; Part Number: 74404054332; Rated Current: 0.1 A; Inductance: 3300 uH; DC Resistance max.: 25920 mOhm; Self Resonant Frequency: 1 MHz; Saturation Current: 0.15 A; ComponentLink1Description: Manufacturer; ComponentLink1URL: http://www.we-online.de; ComponentLink2Description: Datasheet; ComponentLink2URL: https://katalog.we-online.de/pbs/datasheet/74404054332.pdf; Published Date: November 2018; Publisher: Wurth Elektronik; Size: 5040; Operating Temperature: -40 to +125 degC; Mounting Technology: SMT; Packaging: Tape and Reel
footprint WE-LQS_5040
pins: 1, 2

## 74404054470
designator L?, comment 47 uH, 1 A
SMT Semi-Shielded Power Inductor WE-LQS, size 5040, 47 uH, 1 A; Part Number: 74404054470; Rated Current: 1 A; Inductance: 47 uH; DC Resistance max.: 326.4 mOhm; Self Resonant Frequency: 10 MHz; Saturation Current: 1.2 A; ComponentLink1Description: Manufacturer; ComponentLink1URL: http://www.we-online.de; ComponentLink2Description: Datasheet; ComponentLink2URL: https://katalog.we-online.de/pbs/datasheet/74404054470.pdf; Published Date: November 2018; Publisher: Wurth Elektronik; Size: 5040; Operating Temperature: -40 to +125 degC; Mounting Technology: SMT; Packaging: Tape and Reel
footprint WE-LQS_5040
pins: 1, 2

## 74404054471
designator L?, comment 470 uH, 0.35 A
SMT Semi-Shielded Power Inductor WE-LQS, size 5040, 470 uH, 0.35 A; Part Number: 74404054471; Rated Current: 0.35 A; Inductance: 470 uH; DC Resistance max.: 3540 mOhm; Self Resonant Frequency: 2.5 MHz; Saturation Current: 0.4 A; ComponentLink1Description: Manufacturer; ComponentLink1URL: http://www.we-online.de; ComponentLink2Description: Datasheet; ComponentLink2URL: https://katalog.we-online.de/pbs/datasheet/74404054471.pdf; Published Date: November 2018; Publisher: Wurth Elektronik; Size: 5040; Operating Temperature: -40 to +125 degC; Mounting Technology: SMT; Packaging: Tape and Reel
footprint WE-LQS_5040
pins: 1, 2

## 74404054680
designator L?, comment 68 uH, 0.8 A
SMT Semi-Shielded Power Inductor WE-LQS, size 5040, 68 uH, 0.8 A; Part Number: 74404054680; Rated Current: 0.8 A; Inductance: 68 uH; DC Resistance max.: 480 mOhm; Self Resonant Frequency: 8.7 MHz; Saturation Current: 0.99 A; ComponentLink1Description: Manufacturer; ComponentLink1URL: http://www.we-online.de; ComponentLink2Description: Datasheet; ComponentLink2URL: https://katalog.we-online.de/pbs/datasheet/74404054680.pdf; Published Date: November 2018; Publisher: Wurth Elektronik; Size: 5040; Operating Temperature: -40 to +125 degC; Mounting Technology: SMT; Packaging: Tape and Reel
footprint WE-LQS_5040
pins: 1, 2

## 74404054681
designator L?, comment 680 uH, 0.25 A
SMT Semi-Shielded Power Inductor WE-LQS, size 5040, 680 uH, 0.25 A; Part Number: 74404054681; Rated Current: 0.25 A; Inductance: 680 uH; DC Resistance max.: 4776 mOhm; Self Resonant Frequency: 2.3 MHz; Saturation Current: 0.3 A; ComponentLink1Description: Manufacturer; ComponentLink1URL: http://www.we-online.de; ComponentLink2Description: Datasheet; ComponentLink2URL: https://katalog.we-online.de/pbs/datasheet/74404054681.pdf; Published Date: November 2018; Publisher: Wurth Elektronik; Size: 5040; Operating Temperature: -40 to +125 degC; Mounting Technology: SMT; Packaging: Tape and Reel
footprint WE-LQS_5040
pins: 1, 2


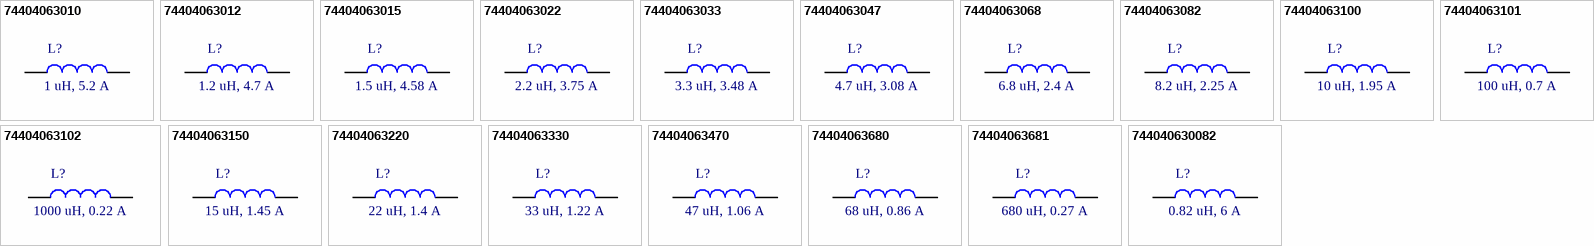
[diagram p9: symbols 74404063010 to 744040630082]

## 74404063010
designator L?, comment 1 uH, 5.2 A
SMT Semi-Shielded Power Inductor WE-LQS, size 6028, 1 uH, 5.2 A; Part Number: 74404063010; Rated Current: 5.2 A; Inductance: 1 uH; DC Resistance max.: 13 mOhm; Self Resonant Frequency: 130 MHz; Saturation Current: 7.5 A; ComponentLink1Description: Manufacturer; ComponentLink1URL: http://www.we-online.de; ComponentLink2Description: Datasheet; ComponentLink2URL: https://katalog.we-online.de/pbs/datasheet/74404063010.pdf; Published Date: November 2018; Publisher: Wurth Elektronik; Size: 6028; Operating Temperature: -40 to +125 degC; Mounting Technology: SMT; Packaging: Tape and Reel
footprint WE-LQS_6028
pins: 1, 2

## 74404063012
designator L?, comment 1.2 uH, 4.7 A
SMT Semi-Shielded Power Inductor WE-LQS, size 6028, 1.2 uH, 4.7 A; Part Number: 74404063012; Rated Current: 4.7 A; Inductance: 1.2 uH; DC Resistance max.: 15.6 mOhm; Self Resonant Frequency: 106 MHz; Saturation Current: 7.3 A; ComponentLink1Description: Manufacturer; ComponentLink1URL: http://www.we-online.de; ComponentLink2Description: Datasheet; ComponentLink2URL: https://katalog.we-online.de/pbs/datasheet/74404063012.pdf; Published Date: November 2018; Publisher: Wurth Elektronik; Size: 6028; Operating Temperature: -40 to +125 degC; Mounting Technology: SMT; Packaging: Tape and Reel
footprint WE-LQS_6028
pins: 1, 2

## 74404063015
designator L?, comment 1.5 uH, 4.58 A
SMT Semi-Shielded Power Inductor WE-LQS, size 6028, 1.5 uH, 4.58 A; Part Number: 74404063015; Rated Current: 4.58 A; Inductance: 1.5 uH; DC Resistance max.: 16.9 mOhm; Self Resonant Frequency: 98 MHz; Saturation Current: 6.6 A; ComponentLink1Description: Manufacturer; ComponentLink1URL: http://www.we-online.de; ComponentLink2Description: Datasheet; ComponentLink2URL: https://katalog.we-online.de/pbs/datasheet/74404063015.pdf; Published Date: November 2018; Publisher: Wurth Elektronik; Size: 6028; Operating Temperature: -40 to +125 degC; Mounting Technology: SMT; Packaging: Tape and Reel
footprint WE-LQS_6028
pins: 1, 2

## 74404063022
designator L?, comment 2.2 uH, 3.75 A
SMT Semi-Shielded Power Inductor WE-LQS, size 6028, 2.2 uH, 3.75 A; Part Number: 74404063022; Rated Current: 3.75 A; Inductance: 2.2 uH; DC Resistance max.: 26 mOhm; Self Resonant Frequency: 69 MHz; Saturation Current: 5.6 A; ComponentLink1Description: Manufacturer; ComponentLink1URL: http://www.we-online.de; ComponentLink2Description: Datasheet; ComponentLink2URL: https://katalog.we-online.de/pbs/datasheet/74404063022.pdf; Published Date: November 2018; Publisher: Wurth Elektronik; Size: 6028; Operating Temperature: -40 to +125 degC; Mounting Technology: SMT; Packaging: Tape and Reel
footprint WE-LQS_6028
pins: 1, 2

## 74404063033
designator L?, comment 3.3 uH, 3.48 A
SMT Semi-Shielded Power Inductor WE-LQS, size 6028, 3.3 uH, 3.48 A; Part Number: 74404063033; Rated Current: 3.48 A; Inductance: 3.3 uH; DC Resistance max.: 32.5 mOhm; Self Resonant Frequency: 59 MHz; Saturation Current: 4.5 A; ComponentLink1Description: Manufacturer; ComponentLink1URL: http://www.we-online.de; ComponentLink2Description: Datasheet; ComponentLink2URL: https://katalog.we-online.de/pbs/datasheet/74404063033.pdf; Published Date: November 2018; Publisher: Wurth Elektronik; Size: 6028; Operating Temperature: -40 to +125 degC; Mounting Technology: SMT; Packaging: Tape and Reel
footprint WE-LQS_6028
pins: 1, 2

## 74404063047
designator L?, comment 4.7 uH, 3.08 A
SMT Semi-Shielded Power Inductor WE-LQS, size 6028, 4.7 uH, 3.08 A; Part Number: 74404063047; Rated Current: 3.08 A; Inductance: 4.7 uH; DC Resistance max.: 39 mOhm; Self Resonant Frequency: 50 MHz; Saturation Current: 3.3 A; ComponentLink1Description: Manufacturer; ComponentLink1URL: http://www.we-online.de; ComponentLink2Description: Datasheet; ComponentLink2URL: https://katalog.we-online.de/pbs/datasheet/74404063047.pdf; Published Date: November 2018; Publisher: Wurth Elektronik; Size: 6028; Operating Temperature: -40 to +125 degC; Mounting Technology: SMT; Packaging: Tape and Reel
footprint WE-LQS_6028
pins: 1, 2

## 74404063068
designator L?, comment 6.8 uH, 2.4 A
SMT Semi-Shielded Power Inductor WE-LQS, size 6028, 6.8 uH, 2.4 A; Part Number: 74404063068; Rated Current: 2.4 A; Inductance: 6.8 uH; DC Resistance max.: 61.1 mOhm; Self Resonant Frequency: 40 MHz; Saturation Current: 2.8 A; ComponentLink1Description: Manufacturer; ComponentLink1URL: http://www.we-online.de; ComponentLink2Description: Datasheet; ComponentLink2URL: https://katalog.we-online.de/pbs/datasheet/74404063068.pdf; Published Date: November 2018; Publisher: Wurth Elektronik; Size: 6028; Operating Temperature: -40 to +125 degC; Mounting Technology: SMT; Packaging: Tape and Reel
footprint WE-LQS_6028
pins: 1, 2

## 74404063082
designator L?, comment 8.2 uH, 2.25 A
SMT Semi-Shielded Power Inductor WE-LQS, size 6028, 8.2 uH, 2.25 A; Part Number: 74404063082; Rated Current: 2.25 A; Inductance: 8.2 uH; DC Resistance max.: 71.5 mOhm; Self Resonant Frequency: 33 MHz; Saturation Current: 2.5 A; ComponentLink1Description: Manufacturer; ComponentLink1URL: http://www.we-online.de; ComponentLink2Description: Datasheet; ComponentLink2URL: https://katalog.we-online.de/pbs/datasheet/74404063082.pdf; Published Date: November 2018; Publisher: Wurth Elektronik; Size: 6028; Operating Temperature: -40 to +125 degC; Mounting Technology: SMT; Packaging: Tape and Reel
footprint WE-LQS_6028
pins: 1, 2

## 74404063100
designator L?, comment 10 uH, 1.95 A
SMT Semi-Shielded Power Inductor WE-LQS, size 6028, 10 uH, 1.95 A; Part Number: 74404063100; Rated Current: 1.95 A; Inductance: 10 uH; DC Resistance max.: 93.6 mOhm; Self Resonant Frequency: 31 MHz; Saturation Current: 2.2 A; ComponentLink1Description: Manufacturer; ComponentLink1URL: http://www.we-online.de; ComponentLink2Description: Datasheet; ComponentLink2URL: https://katalog.we-online.de/pbs/datasheet/74404063100.pdf; Published Date: November 2018; Publisher: Wurth Elektronik; Size: 6028; Operating Temperature: -40 to +125 degC; Mounting Technology: SMT; Packaging: Tape and Reel
footprint WE-LQS_6028
pins: 1, 2

## 74404063101
designator L?, comment 100 uH, 0.7 A
SMT Semi-Shielded Power Inductor WE-LQS, size 6028, 100 uH, 0.7 A; Part Number: 74404063101; Rated Current: 0.7 A; Inductance: 100 uH; DC Resistance max.: 650 mOhm; Self Resonant Frequency: 8.8 MHz; Saturation Current: 0.71 A; ComponentLink1Description: Manufacturer; ComponentLink1URL: http://www.we-online.de; ComponentLink2Description: Datasheet; ComponentLink2URL: https://katalog.we-online.de/pbs/datasheet/74404063101.pdf; Published Date: November 2018; Publisher: Wurth Elektronik; Size: 6028; Operating Temperature: -40 to +125 degC; Mounting Technology: SMT; Packaging: Tape and Reel
footprint WE-LQS_6028
pins: 1, 2

## 74404063102
designator L?, comment 1000 uH, 0.22 A
SMT Semi-Shielded Power Inductor WE-LQS, size 6028, 1000 uH, 0.22 A; Part Number: 74404063102; Rated Current: 0.22 A; Inductance: 1000 uH; DC Resistance max.: 8372 mOhm; Self Resonant Frequency: 2 MHz; Saturation Current: 0.23 A; ComponentLink1Description: Manufacturer; ComponentLink1URL: http://www.we-online.de; ComponentLink2Description: Datasheet; ComponentLink2URL: https://katalog.we-online.de/pbs/datasheet/74404063102.pdf; Published Date: November 2018; Publisher: Wurth Elektronik; Size: 6028; Operating Temperature: -40 to +125 degC; Mounting Technology: SMT; Packaging: Tape and Reel
footprint WE-LQS_6028
pins: 1, 2

## 74404063150
designator L?, comment 15 uH, 1.45 A
SMT Semi-Shielded Power Inductor WE-LQS, size 6028, 15 uH, 1.45 A; Part Number: 74404063150; Rated Current: 1.45 A; Inductance: 15 uH; DC Resistance max.: 162.5 mOhm; Self Resonant Frequency: 24 MHz; Saturation Current: 1.9 A; ComponentLink1Description: Manufacturer; ComponentLink1URL: http://www.we-online.de; ComponentLink2Description: Datasheet; ComponentLink2URL: https://katalog.we-online.de/pbs/datasheet/74404063150.pdf; Published Date: November 2018; Publisher: Wurth Elektronik; Size: 6028; Operating Temperature: -40 to +125 degC; Mounting Technology: SMT; Packaging: Tape and Reel
footprint WE-LQS_6028
pins: 1, 2

## 74404063220
designator L?, comment 22 uH, 1.4 A
SMT Semi-Shielded Power Inductor WE-LQS, size 6028, 22 uH, 1.4 A; Part Number: 74404063220; Rated Current: 1.4 A; Inductance: 22 uH; DC Resistance max.: 182 mOhm; Self Resonant Frequency: 21 MHz; Saturation Current: 1.6 A; ComponentLink1Description: Manufacturer; ComponentLink1URL: http://www.we-online.de; ComponentLink2Description: Datasheet; ComponentLink2URL: https://katalog.we-online.de/pbs/datasheet/74404063220.pdf; Published Date: November 2018; Publisher: Wurth Elektronik; Size: 6028; Operating Temperature: -40 to +125 degC; Mounting Technology: SMT; Packaging: Tape and Reel
footprint WE-LQS_6028
pins: 1, 2

## 74404063330
designator L?, comment 33 uH, 1.22 A
SMT Semi-Shielded Power Inductor WE-LQS, size 6028, 33 uH, 1.22 A; Part Number: 74404063330; Rated Current: 1.22 A; Inductance: 33 uH; DC Resistance max.: 240.5 mOhm; Self Resonant Frequency: 16 MHz; Saturation Current: 1.5 A; ComponentLink1Description: Manufacturer; ComponentLink1URL: http://www.we-online.de; ComponentLink2Description: Datasheet; ComponentLink2URL: https://katalog.we-online.de/pbs/datasheet/74404063330.pdf; Published Date: November 2018; Publisher: Wurth Elektronik; Size: 6028; Operating Temperature: -40 to +125 degC; Mounting Technology: SMT; Packaging: Tape and Reel
footprint WE-LQS_6028
pins: 1, 2